# Altium footprint library Extra-ECSESummer-Footprints.PcbLib: 5 footprints
Each footprint in its own frame and in the unit in brackets; x right, y up, seen from the top. Pads: shape width x height; smd on the part's side, far side on the other; paste and mask are expansions set on the pad; w line width, h text height; cw(c..) or ccw(c..) is an arc to the next point about the centre after c.
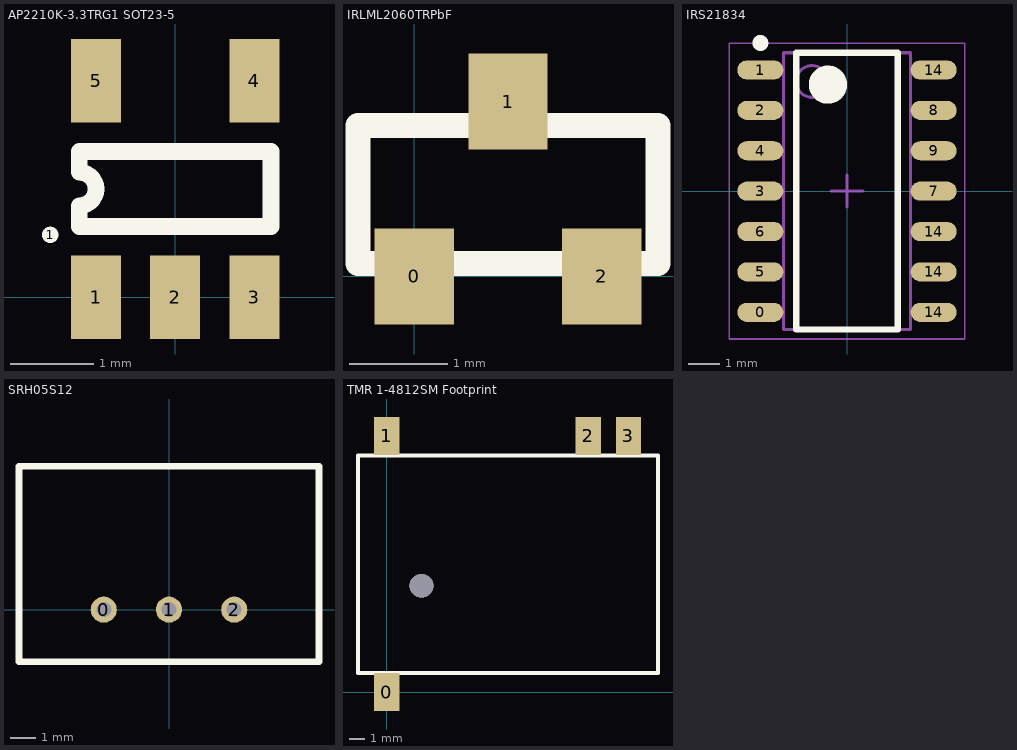
[diagram p0: the footprints below, top view; thin cyan lines are the x and y axes]

## AP2210K-3.3TRG1 SOT23-5 [mm] "SOT143-4 as used in AP2210K-3.3TRG1"
pads (6):
  round 0.2 on Top Overlay: 1(-1.5,0.75)
  rect 0.6x1 smd: 1(-0.95,0) 2(0,0) 3(0.95,0) 4(0.95,2.6) 5(-0.95,2.6)
Top Overlay:
  lines w0.2: -1.15,0.85 1.15,0.85 1.15,1.75 -1.15,1.75 -1.15,1.5 cw(c-1.15,1.3) -1.15,1.1 -1.15,0.85
3D body "SOT235.step": height 1, standoff 0, extent -1.46,0.13 1.46,2.47

## IRLML2060TRPbF [mm] "IRLML2060TRPbF N-Channel MOSFET"
pads (3):
  rect 0.802x0.972 smd: 0(0,0) 1(0.95,1.77) 2(1.9,0)
Top Overlay:
  lines w0.254: -0.57,0.13 2.47,0.13 2.47,1.53 -0.57,1.53 -0.57,0.13
3D body "SOT23_INF.step": height 1.09, standoff 0, extent -0.549,-0.38 2.449,2.16

## IRS21834 [mm] "IRS21834 HALF-BRIDGE 600V FET DRIVER"
height 1.75
pads (14):
  oval 1.45x0.6 smd: 0(-2.725,-3.81) 1(-2.725,3.81) 2(-2.725,2.54) 3(-2.725,0) 4(-2.725,1.27) 5(-2.725,-2.54) 6(-2.725,-1.27) 7(2.725,0) 8(2.725,2.54) 9(2.725,1.27) 14(2.725,-3.81) 14(2.725,-2.54) 14(2.725,-1.27) 14(2.725,3.81)
Top Overlay:
  circle w0.25: c-2.725,4.66 r0.125
  circle w0.6: c-0.6,3.35 r0.3
  lines w0.2: -1.6,-4.35 -1.6,4.35 1.6,4.35 1.6,-4.35 -1.6,-4.35
Mechanical 13:
  circle w0.1: c-1.1,3.45 r0.5
  lines w0.1: -2,-4.35 -2,4.35 2,4.35 2,-4.35 -2,-4.35
Mechanical 15:
  lines w0.05: -3.7,-4.65 -3.7,4.65 3.7,4.65 3.7,-4.65 -3.7,-4.65
  lines w0.1: -0.5,0 0.5,0 ; 0,-0.5 0,0.5
3D body "SOIC127P600X175-14N.step": height 1.75, standoff 0, extent -3,-4.35 3,4.35

## SRH05S12 [mil] "DC-DC Regulator 12V Out TH"
pads (3):
  round 40 hole 23: 0(-100,0) 1(0,0) 2(100,0)
Top Overlay:
  lines w10: -230,-80 -230,220 230,220 230,-80 0,-80 -230,-80
3D body: height 380, standoff 20, extent -230,-80 230,220

## TMR 1-4812SM Footprint [mm] "Footprint for TMR 1-4812SM"
pads (4):
  rect 1.6x2.4 smd: 0(0,0) 1(0,16.15) 2(12.7,16.15) 3(15.24,16.15)
via 2.2,6.7 diameter 1.5 hole 1.5
Top Overlay:
  lines w0.254: -1.8,1.2 17.1,1.2 17.1,14.9 -1.8,14.9 -1.8,1.2
3D body "tmr1sm_3d_drawing.step": height 8.9, standoff 0.05, extent -1.8,-0.5 17.2,16.7